# EAGLE library part MIC5891YWM-TR (library MIC5891YWM)
8-bit shift register/relay driver
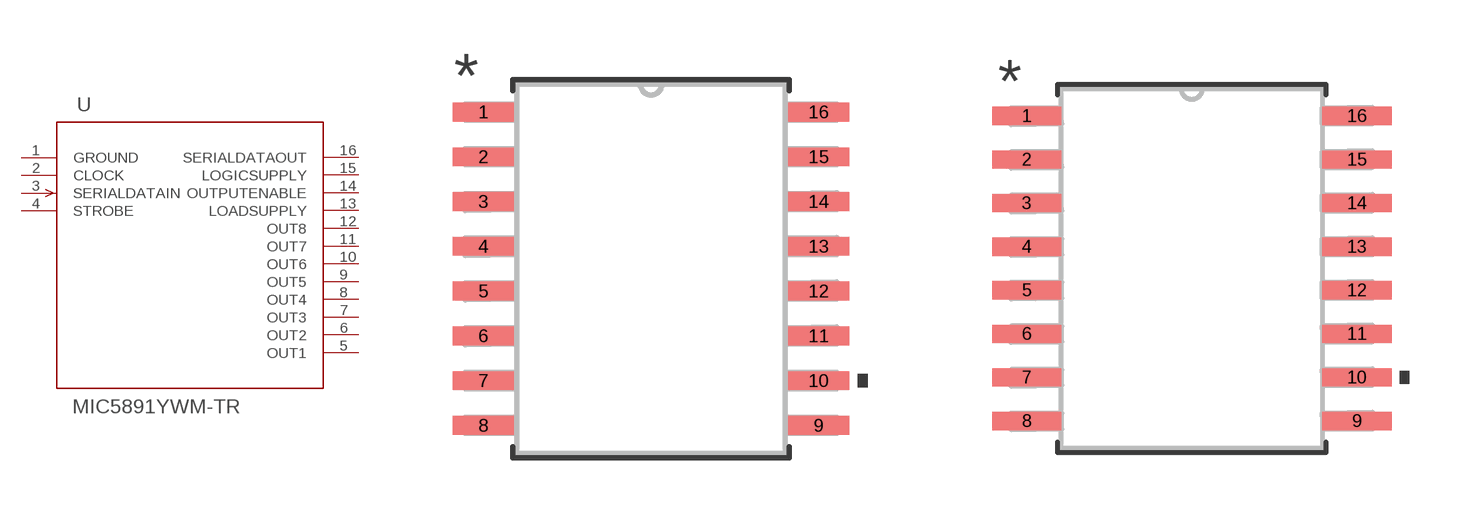
[diagram p0: symbol with the pads of SOIC-16_WM_MCH; footprints SOIC-16_WM_MCH, SOIC-16_WM_MCH-M]

Designator prefix U

## MIC5891YWM-TR (COPYRIGHT: Copyright (C) 2021 Ultra Librarian. All rights reserved.; MANUFACTURER_PART_NUMBER: MIC5891YWM-TR; MFR_NAME: Microchip)  [SOIC-16_WM_MCH]
1  GROUND  pwr
2  CLOCK  pas
3  SERIALDATAIN  in
4  STROBE  pas
5  OUT1  out
6  OUT2  out
7  OUT3  out
8  OUT4  out
9  OUT5  out
10  OUT6  out
11  OUT7  out
12  OUT8  out
13  LOADSUPPLY  pas
14  OUTPUTENABLE  pas
15  LOGICSUPPLY  pas
16  SERIALDATAOUT  out

## MIC5891YWM-TRSOIC-16_WM_MCH-M (COPYRIGHT: Copyright (C) 2021 Ultra Librarian. All rights reserved.; MANUFACTURER_PART_NUMBER: MIC5891YWM-TR; MFR_NAME: Microchip)  [SOIC-16_WM_MCH-M]
Pads as for SOIC-16_WM_MCH

## MIC5891YWM-TRSOIC-16_WM_MCH-L (COPYRIGHT: Copyright (C) 2021 Ultra Librarian. All rights reserved.; MANUFACTURER_PART_NUMBER: MIC5891YWM-TR; MFR_NAME: Microchip)  [SOIC-16_WM_MCH-L]
Pads as for SOIC-16_WM_MCH

## Footprint SOIC-16_WM_MCH (pad centres in mm)
smd 1.727 x 0.533: 1 -4.75,4.445; 2 -4.75,3.175; 3 -4.75,1.905; 4 -4.75,0.635; 5 -4.75,-0.635; 6 -4.75,-1.905; 7 -4.75,-3.175; 8 -4.75,-4.445; 9 4.75,-4.445; 10 4.75,-3.175; 11 4.75,-1.905; 12 4.75,-0.635; 13 4.75,0.635; 14 4.75,1.905; 15 4.75,3.175; 16 4.75,4.445

## Footprint SOIC-16_WM_MCH-M (pad centres in mm)
smd 2.019 x 0.533: 1 -4.807,4.445; 2 -4.807,3.175; 3 -4.807,1.905; 4 -4.807,0.635; 5 -4.807,-0.635; 6 -4.807,-1.905; 7 -4.807,-3.175; 8 -4.807,-4.445; 9 4.807,-4.445; 10 4.807,-3.175; 11 4.807,-1.905; 12 4.807,-0.635; 13 4.807,0.635; 14 4.807,1.905; 15 4.807,3.175; 16 4.807,4.445

## Footprint SOIC-16_WM_MCH-L (pad centres in mm)
smd 1.422 x 0.483: 1 -4.699,4.445; 2 -4.699,3.175; 3 -4.699,1.905; 4 -4.699,0.635; 5 -4.699,-0.635; 6 -4.699,-1.905; 7 -4.699,-3.175; 8 -4.699,-4.445; 9 4.699,-4.445; 10 4.699,-3.175; 11 4.699,-1.905; 12 4.699,-0.635; 13 4.699,0.635; 14 4.699,1.905; 15 4.699,3.175; 16 4.699,4.445